# Altium footprint library Nestling_2.1.PcbLib: 1 footprints
Each footprint in its own frame and in the unit in brackets; x right, y up, seen from the top. Pads: shape width x height; smd on the part's side, far side on the other; paste and mask are expansions set on the pad; w line width, h text height; cw(c..) or ccw(c..) is an arc to the next point about the centre after c.
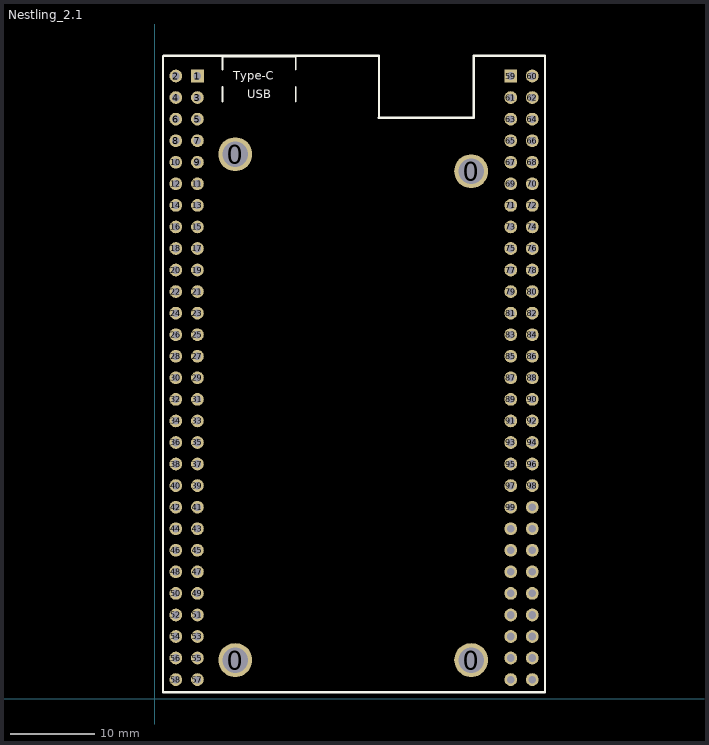
[diagram p0: the footprint, top view; thin cyan lines are the x and y axes]

## Nestling_2.1 [mm]
pads (120):
  round 4 hole 3: 0(9.489,4.543) 0(9.489,64.143) 0(37.289,4.543) 0(37.289,62.143)
  rect 1.5x1.5 hole 0.9: 1(5.029,73.363) 59(41.949,73.363)
  round 1.5 hole 0.9: 2(2.489,73.363) 3(5.029,70.823) 4(2.489,70.823) 5(5.029,68.283) 6(2.489,68.283) 7(5.029,65.743) 8(2.489,65.743) 9(5.029,63.203) 10(2.489,63.203) 11(5.029,60.663) 12(2.489,60.663) 13(5.029,58.123) 14(2.489,58.123) 15(5.029,55.583) 16(2.489,55.583) 17(5.029,53.043) 18(2.489,53.043) 19(5.029,50.503) 20(2.489,50.503) 21(5.029,47.963) 22(2.489,47.963) 23(5.029,45.423) 24(2.489,45.423) 25(5.029,42.883) 26(2.489,42.883) 27(5.029,40.343) 28(2.489,40.343) 29(5.029,37.803) 30(2.489,37.803) 31(5.029,35.263) 32(2.489,35.263) 33(5.029,32.723) 34(2.489,32.723) 35(5.029,30.183) 36(2.489,30.183) 37(5.029,27.643) 38(2.489,27.643) 39(5.029,25.103) 40(2.489,25.103) 41(5.029,22.563) 42(2.489,22.563) 43(5.029,20.023) 44(2.489,20.023) 45(5.029,17.483) 46(2.489,17.483) 47(5.029,14.943) 48(2.489,14.943) 49(5.029,12.403) 50(2.489,12.403) 51(5.029,9.863) 52(2.489,9.863) 53(5.029,7.323) 54(2.489,7.323) 55(5.029,4.783) 56(2.489,4.783) 57(5.029,2.243) 58(2.489,2.243) 60(44.489,73.363) 61(41.949,70.823) 62(44.489,70.823) 63(41.949,68.283) 64(44.489,68.283) 65(41.949,65.743) 66(44.489,65.743) 67(41.949,63.203) 68(44.489,63.203) 69(41.949,60.663) 70(44.489,60.663) 71(41.949,58.123) 72(44.489,58.123) 73(41.949,55.583) 74(44.489,55.583) 75(41.949,53.043) 76(44.489,53.043) 77(41.949,50.503) 78(44.489,50.503) 79(41.949,47.963) 80(44.489,47.963) 81(41.949,45.423) 82(44.489,45.423) 83(41.949,42.883) 84(44.489,42.883) 85(41.949,40.343) 86(44.489,40.343) 87(41.949,37.803) 88(44.489,37.803) 89(41.949,35.263) 90(44.489,35.263) 91(41.949,32.723) 92(44.489,32.723) 93(41.949,30.183) 94(44.489,30.183) 95(41.949,27.643) 96(44.489,27.643) 97(41.949,25.103) 98(44.489,25.103) 99(41.949,22.563) 100(44.489,22.563) 101(41.949,20.023) 102(44.489,20.023) 103(41.949,17.483) 104(44.489,17.483) 105(41.949,14.943) 106(44.489,14.943) 107(41.949,12.403) 108(44.489,12.403) 109(41.949,9.863) 110(44.489,9.863) 111(41.949,7.323) 112(44.489,7.323) 113(41.949,4.783) 114(44.489,4.783) 115(41.949,2.243) 116(44.489,2.243)
Top Overlay:
  lines w0.203: 7.984,74.135 7.984,75.663 16.634,75.663 16.634,74.135 ; 7.991,70.325 7.991,72.103 ; 16.627,70.325 16.627,72.103
  lines w0.254: 0.989,0.762 0.989,75.716 1.016,75.743 26.416,75.743 26.416,68.48 26.389,68.453 27.813,68.453 37.592,68.453 37.592,75.743 45.974,75.743 45.974,0.762 0.989,0.762
  text "USB" at 10.922,70.739 h1
  text "Type-C" at 9.271,72.898 h1